# Altium integrated library ON_Semi_Battery_Monitors.IntLib: 1 symbol
Pins are listed as number, name and electrical type; pins without a type are passive.

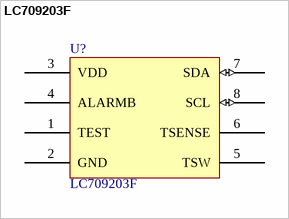
[diagram p0: symbol LC709203F]

## LC709203F
designator U?
Smart LiB Gauge Battery Fuel Gauge LSI for 1-Cell Lithium-ion (Li+); Manufacturer 1: ON Semiconductor; Manufacturer Part Number 1: LC709203FQH-01TWG; Publisher: Valentino Zegna Baruffa; Published: 28-Jul-2015; ComponentLink1URL: http://www.onsemi.com/pub_link/Collateral/LC709203F-D.PDF; ComponentLink1Description: Datasheet; Supplier 1: Mouser; Supplier Part Number 1: 863-LC709203FQH01TWG
footprint WDFN8-3x4mm-0.65p (WDFN8, 3x4mm, pitch 0.65mm)
pins: 1 TEST, 2 GND (power), 3 VDD (power), 4 ALARMB, 5 TSW, 6 TSENSE, 7 SDA (io), 8 SCL (io)